# Altium footprint library Package_DirectFET.PcbLib: 29 footprints (part 2 of 2)
Each footprint in its own frame and in the unit in brackets; x right, y up, seen from the top. Pads: shape width x height; smd on the part's side, far side on the other; paste and mask are expansions set on the pad; w line width, h text height; cw(c..) or ccw(c..) is an arc to the next point about the centre after c.
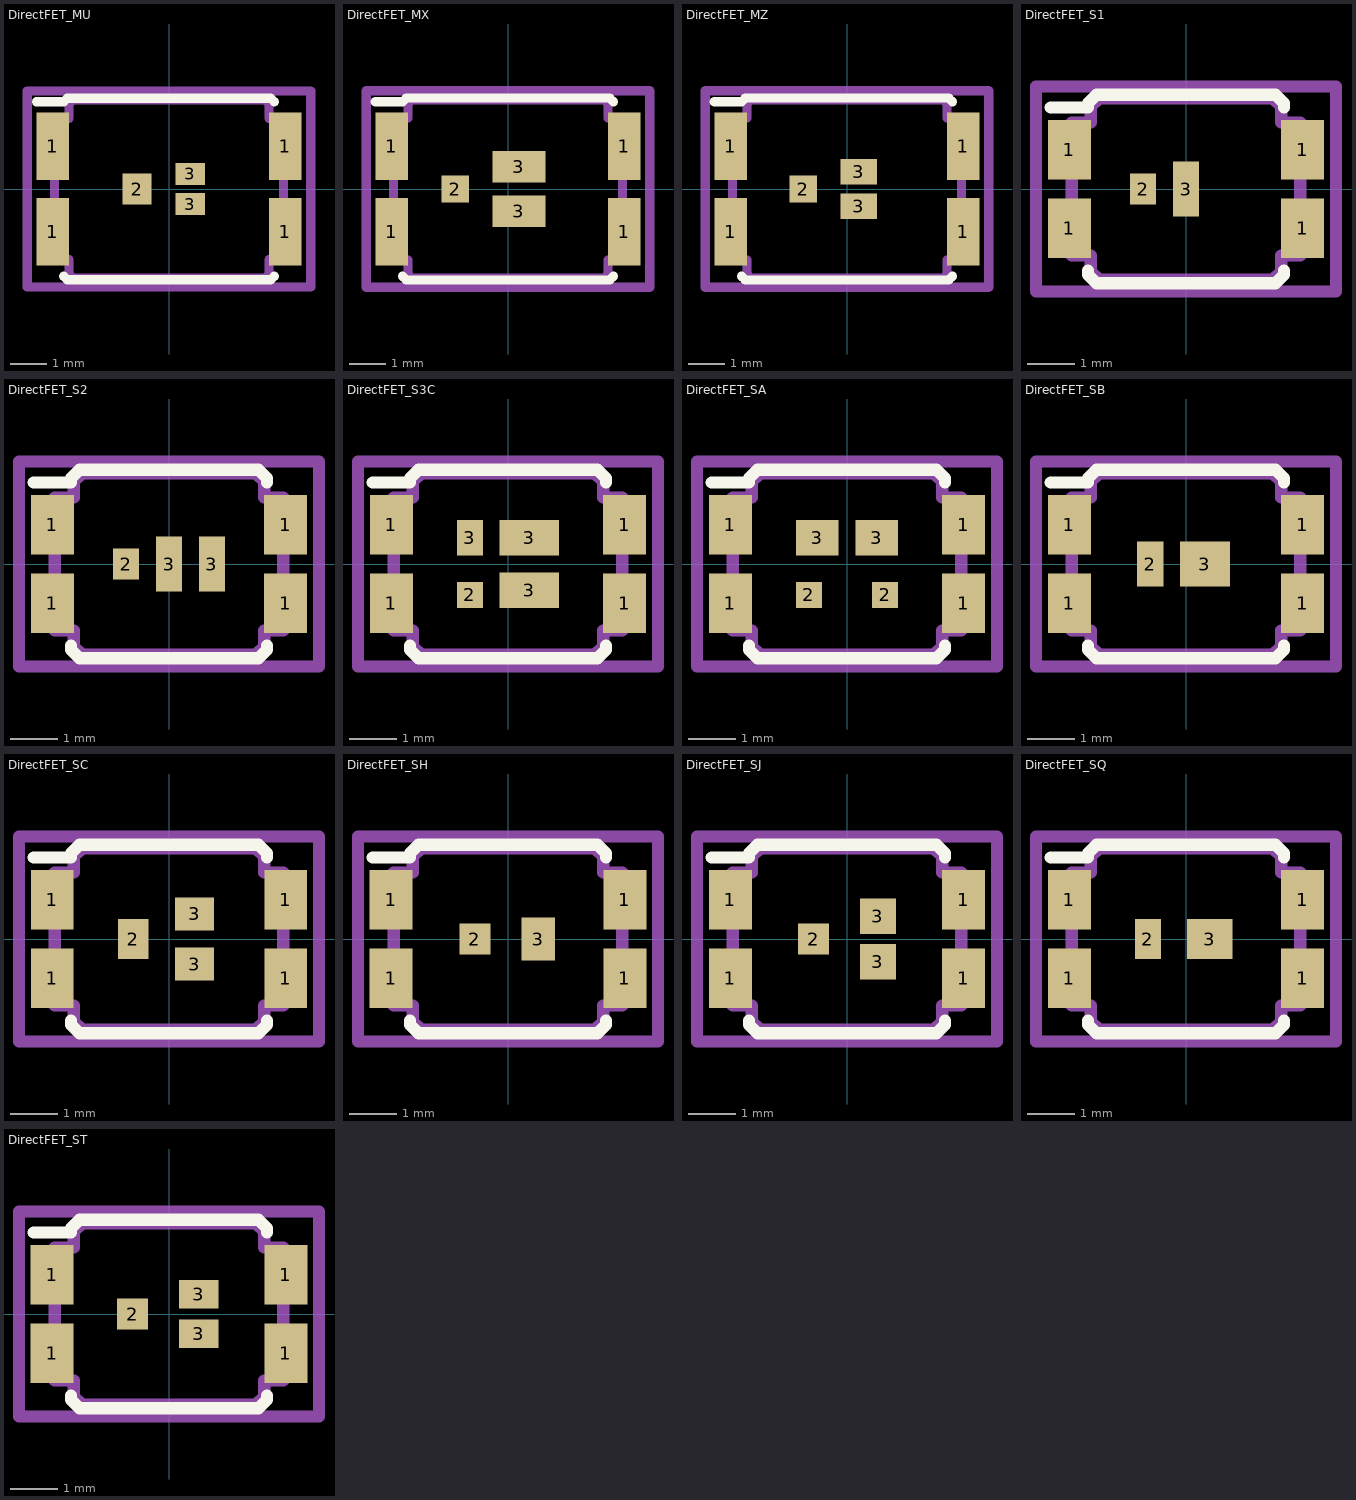
[diagram p1: the footprints below, top view; thin cyan lines are the x and y axes]

## DirectFET_MU [mm]
pads (7):
  rect 0.9x1.85 smd: 1(-3.205,-1.175) 1(-3.205,1.175) 1(3.205,-1.175) 1(3.205,1.175)
  rect 0.8x0.85 smd: 2(-0.875,0)
  rect 0.82x0.6 smd: 3(0.585,-0.415) 3(0.585,0.415)
F.SilkS:
  lines w0.254: -3.65,2.4 -2.9,2.4 -2.8,2.5 2.8,2.5 2.9,2.4 ; -2.9,-2.4 -2.8,-2.5 2.8,-2.5 2.9,-2.4
Top Assembly:
  lines w0.254: -3.15,-1.95 -2.75,-1.95 -2.75,-2.35 -2.65,-2.45 2.65,-2.45 2.75,-2.35 2.75,-1.95 3.15,-1.95 3.15,1.95 2.75,1.95 2.75,2.35 2.65,2.45 -2.65,2.45 -2.75,2.35 -2.75,1.95 -3.15,1.95 -3.15,-1.95
  text "'.Designator'" at -4.047,-0.84 h1
Top Courtyard:
  lines w0.254: -3.9,-2.7 3.9,-2.7 3.9,2.7 -3.9,2.7 -3.9,-2.7
Top Designator:
  text ".Designator" at -7.702,-0.508 h1.52

## DirectFET_MX [mm]
pads (7):
  rect 0.9x1.85 smd: 1(-3.2,-1.175) 1(-3.2,1.175) 1(3.2,-1.175) 1(3.2,1.175)
  rect 0.75x0.75 smd: 2(-1.45,0)
  rect 1.45x0.87 smd: 3(0.3,-0.61) 3(0.3,0.61)
F.SilkS:
  lines w0.254: -3.65,2.4 -2.9,2.4 -2.8,2.5 2.8,2.5 2.9,2.4 ; -2.9,-2.4 -2.8,-2.5 2.8,-2.5 2.9,-2.4
Top Assembly:
  lines w0.254: -3.15,-1.95 -2.75,-1.95 -2.75,-2.35 -2.65,-2.45 2.65,-2.45 2.75,-2.35 2.75,-1.95 3.15,-1.95 3.15,1.95 2.75,1.95 2.75,2.35 2.65,2.45 -2.65,2.45 -2.75,2.35 -2.75,1.95 -3.15,1.95 -3.15,-1.95
  text "'.Designator'" at -4.047,-0.84 h1
Top Courtyard:
  lines w0.254: -3.9,-2.7 3.9,-2.7 3.9,2.7 -3.9,2.7 -3.9,-2.7
Top Designator:
  text ".Designator" at -7.702,-0.508 h1.52

## DirectFET_MZ [mm]
pads (7):
  rect 0.9x1.85 smd: 1(-3.2,-1.175) 1(-3.2,1.175) 1(3.2,-1.175) 1(3.2,1.175)
  rect 0.75x0.75 smd: 2(-1.2,0)
  rect 1x0.7 smd: 3(0.325,-0.475) 3(0.325,0.475)
F.SilkS:
  lines w0.254: -3.65,2.4 -2.9,2.4 -2.8,2.5 2.8,2.5 2.9,2.4 ; -2.9,-2.4 -2.8,-2.5 2.8,-2.5 2.9,-2.4
Top Assembly:
  lines w0.254: -3.15,-1.95 -2.75,-1.95 -2.75,-2.35 -2.65,-2.45 2.65,-2.45 2.75,-2.35 2.75,-1.95 3.15,-1.95 3.15,1.95 2.75,1.95 2.75,2.35 2.65,2.45 -2.65,2.45 -2.75,2.35 -2.75,1.95 -3.15,1.95 -3.15,-1.95
  text "'.Designator'" at -4.047,-0.84 h1
Top Courtyard:
  lines w0.254: -3.9,-2.7 3.9,-2.7 3.9,2.7 -3.9,2.7 -3.9,-2.7
Top Designator:
  text ".Designator" at -7.702,-0.508 h1.52

## DirectFET_S1 [mm]
pads (6):
  rect 0.9x1.25 smd: 1(-2.45,-0.825) 1(-2.45,0.825) 1(2.45,-0.825) 1(2.45,0.825)
  rect 0.55x0.65 smd: 2(-0.9,0)
  rect 0.55x1.15 smd: 3(0,0)
F.SilkS:
  lines w0.254: -2.84,1.71 -2.06,1.71 -2.06,1.8 -1.88,1.98 1.88,1.98 2.06,1.8 2.06,1.71 ; -2.06,-1.71 -2.06,-1.8 -1.88,-1.98 1.88,-1.98 2.06,-1.8 2.06,-1.71
Top Assembly:
  lines w0.254: -2.4,-1.4 -2,-1.4 -2,-1.725 -1.825,-1.9 1.825,-1.9 2,-1.725 2,-1.4 2.4,-1.4 2.4,1.4 2,1.4 2,1.725 1.825,1.9 -1.825,1.9 -2,1.725 -2,1.4 -2.4,1.4 -2.4,-1.4
  text "'.Designator'" at -4.047,-0.84 h1
Top Courtyard:
  lines w0.254: -3.15,-2.15 3.15,-2.15 3.15,2.15 -3.15,2.15 -3.15,-2.15
Top Designator:
  text ".Designator" at -7.768,-0.508 h1.52

## DirectFET_S2 [mm]
pads (7):
  rect 0.9x1.25 smd: 1(-2.45,-0.825) 1(-2.45,0.825) 1(2.45,-0.825) 1(2.45,0.825)
  rect 0.55x0.65 smd: 2(-0.9,0)
  rect 0.55x1.15 smd: 3(0,0) 3(0.9,0)
F.SilkS:
  lines w0.254: -2.84,1.71 -2.06,1.71 -2.06,1.8 -1.88,1.98 1.88,1.98 2.06,1.8 2.06,1.71 ; -2.06,-1.71 -2.06,-1.8 -1.88,-1.98 1.88,-1.98 2.06,-1.8 2.06,-1.71
Top Assembly:
  lines w0.254: -2.4,-1.4 -2,-1.4 -2,-1.725 -1.825,-1.9 1.825,-1.9 2,-1.725 2,-1.4 2.4,-1.4 2.4,1.4 2,1.4 2,1.725 1.825,1.9 -1.825,1.9 -2,1.725 -2,1.4 -2.4,1.4 -2.4,-1.4
  text "'.Designator'" at -4.047,-0.84 h1
Top Courtyard:
  lines w0.254: -3.15,-2.15 3.15,-2.15 3.15,2.15 -3.15,2.15 -3.15,-2.15
Top Designator:
  text ".Designator" at -7.768,-0.508 h1.52

## DirectFET_S3C [mm]
pads (8):
  rect 0.9x1.25 smd: 1(-2.45,-0.825) 1(-2.45,0.825) 1(2.45,-0.825) 1(2.45,0.825)
  rect 0.55x0.55 smd: 2(-0.8,-0.65)
  rect 0.55x0.75 smd: 3(-0.8,0.55)
  rect 1.25x0.75 smd: 3(0.45,-0.55) 3(0.45,0.55)
F.SilkS:
  lines w0.254: -2.84,1.71 -2.06,1.71 -2.06,1.8 -1.88,1.98 1.88,1.98 2.06,1.8 2.06,1.71 ; -2.06,-1.71 -2.06,-1.8 -1.88,-1.98 1.88,-1.98 2.06,-1.8 2.06,-1.71
Top Assembly:
  lines w0.254: -2.4,-1.4 -2,-1.4 -2,-1.725 -1.825,-1.9 1.825,-1.9 2,-1.725 2,-1.4 2.4,-1.4 2.4,1.4 2,1.4 2,1.725 1.825,1.9 -1.825,1.9 -2,1.725 -2,1.4 -2.4,1.4 -2.4,-1.4
  text "'.Designator'" at -4.047,-0.84 h1
Top Courtyard:
  lines w0.254: -3.15,-2.15 3.15,-2.15 3.15,2.15 -3.15,2.15 -3.15,-2.15
Top Designator:
  text ".Designator" at -7.768,-0.508 h1.52

## DirectFET_SA [mm]
pads (8):
  rect 0.9x1.25 smd: 1(-2.45,-0.825) 1(-2.45,0.825) 1(2.45,-0.825) 1(2.45,0.825)
  rect 0.55x0.55 smd: 2(-0.8,-0.65) 2(0.8,-0.65)
  rect 0.9x0.75 smd: 3(-0.625,0.55) 3(0.625,0.55)
F.SilkS:
  lines w0.254: -2.84,1.71 -2.06,1.71 -2.06,1.8 -1.88,1.98 1.88,1.98 2.06,1.8 2.06,1.71 ; -2.06,-1.71 -2.06,-1.8 -1.88,-1.98 1.88,-1.98 2.06,-1.8 2.06,-1.71
Top Assembly:
  lines w0.254: -2,1.725 -1.825,1.9 1.825,1.9 2,1.725 2,1.4 2.4,1.4 2.4,-1.4 2,-1.4 2,-1.725 1.825,-1.9 -1.825,-1.9 -2,-1.725 -2,-1.4 -2.4,-1.4 -2.4,1.4 -2,1.4 -2,1.75
  text "'.Designator'" at -4.047,-0.84 h1
Top Courtyard:
  lines w0.254: -3.15,-2.15 3.15,-2.15 3.15,2.15 -3.15,2.15 -3.15,-2.15
Top Designator:
  text ".Designator" at -7.768,-0.508 h1.52

## DirectFET_SB [mm]
pads (6):
  rect 0.9x1.25 smd: 1(-2.45,-0.825) 1(-2.45,0.825) 1(2.45,-0.825) 1(2.45,0.825)
  rect 0.55x0.95 smd: 2(-0.75,0)
  rect 1.05x0.95 smd: 3(0.395,0)
F.SilkS:
  lines w0.254: -2.84,1.71 -2.06,1.71 -2.06,1.8 -1.88,1.98 1.88,1.98 2.06,1.8 2.06,1.71 ; -2.06,-1.71 -2.06,-1.8 -1.88,-1.98 1.88,-1.98 2.06,-1.8 2.06,-1.71
Top Assembly:
  lines w0.254: -2.4,-1.4 -2,-1.4 -2,-1.725 -1.825,-1.9 1.825,-1.9 2,-1.725 2,-1.4 2.4,-1.4 2.4,1.4 2,1.4 2,1.725 1.825,1.9 -1.825,1.9 -2,1.725 -2,1.4 -2.4,1.4 -2.4,-1.4
  text "'.Designator'" at -4.047,-0.84 h1
Top Courtyard:
  lines w0.254: -3.15,-2.15 3.15,-2.15 3.15,2.15 -3.15,2.15 -3.15,-2.15
Top Designator:
  text ".Designator" at -7.768,-0.508 h1.52

## DirectFET_SC [mm]
pads (7):
  rect 0.9x1.25 smd: 1(-2.451,-0.825) 1(-2.451,0.825) 1(2.451,-0.825) 1(2.451,0.825)
  rect 0.65x0.85 smd: 2(-0.75,0)
  rect 0.825x0.7 smd: 3(0.537,-0.525) 3(0.537,0.525)
F.SilkS:
  lines w0.254: -2.84,1.71 -2.06,1.71 -2.06,1.8 -1.88,1.98 1.88,1.98 2.06,1.8 2.06,1.71 ; -2.06,-1.71 -2.06,-1.8 -1.88,-1.98 1.88,-1.98 2.06,-1.8 2.06,-1.71
Top Assembly:
  lines w0.254: -2.4,-1.4 -2,-1.4 -2,-1.725 -1.825,-1.9 1.825,-1.9 2,-1.725 2,-1.4 2.4,-1.4 2.4,1.4 2,1.4 2,1.725 1.825,1.9 -1.825,1.9 -2,1.725 -2,1.4 -2.4,1.4 -2.4,-1.4
  text "'.Designator'" at -4.047,-0.84 h1
Top Courtyard:
  lines w0.254: -3.15,-2.15 3.15,-2.15 3.15,2.15 -3.15,2.15 -3.15,-2.15
Top Designator:
  text ".Designator" at -7.768,-0.508 h1.52

## DirectFET_SH [mm]
pads (6):
  rect 0.9x1.25 smd: 1(-2.455,-0.825) 1(-2.455,0.825) 1(2.455,-0.825) 1(2.455,0.825)
  rect 0.65x0.65 smd: 2(-0.695,0)
  rect 0.7x0.9 smd: 3(0.635,0)
F.SilkS:
  lines w0.254: -2.84,1.71 -2.06,1.71 -2.06,1.8 -1.88,1.98 1.88,1.98 2.06,1.8 2.06,1.71 ; -2.06,-1.71 -2.06,-1.8 -1.88,-1.98 1.88,-1.98 2.06,-1.8 2.06,-1.71
Top Assembly:
  lines w0.254: -2.4,-1.4 -2,-1.4 -2,-1.725 -1.825,-1.9 1.825,-1.9 2,-1.725 2,-1.4 2.4,-1.4 2.4,1.4 2,1.4 2,1.725 1.825,1.9 -1.825,1.9 -2,1.725 -2,1.4 -2.4,1.4 -2.4,-1.4
  text "'.Designator'" at -4.047,-0.84 h1
Top Courtyard:
  lines w0.254: -3.15,-2.15 3.15,-2.15 3.15,2.15 -3.15,2.15 -3.15,-2.15
Top Designator:
  text ".Designator" at -7.768,-0.508 h1.52

## DirectFET_SJ [mm]
pads (7):
  rect 0.9x1.25 smd: 1(-2.45,-0.825) 1(-2.45,0.825) 1(2.45,-0.825) 1(2.45,0.825)
  rect 0.65x0.65 smd: 2(-0.7,0)
  rect 0.75x0.75 smd: 3(0.65,-0.475) 3(0.65,0.475)
F.SilkS:
  lines w0.254: -2.84,1.71 -2.06,1.71 -2.06,1.8 -1.88,1.98 1.88,1.98 2.06,1.8 2.06,1.71 ; -2.06,-1.71 -2.06,-1.8 -1.88,-1.98 1.88,-1.98 2.06,-1.8 2.06,-1.71
Top Assembly:
  lines w0.254: -2.4,-1.4 -2,-1.4 -2,-1.725 -1.825,-1.9 1.825,-1.9 2,-1.725 2,-1.4 2.4,-1.4 2.4,1.4 2,1.4 2,1.725 1.825,1.9 -1.825,1.9 -2,1.725 -2,1.4 -2.4,1.4 -2.4,-1.4
  text "'.Designator'" at -4.047,-0.84 h1
Top Courtyard:
  lines w0.254: -3.15,-2.15 3.15,-2.15 3.15,2.15 -3.15,2.15 -3.15,-2.15
Top Designator:
  text ".Designator" at -7.768,-0.508 h1.52

## DirectFET_SQ [mm]
pads (6):
  rect 0.9x1.25 smd: 1(-2.45,-0.825) 1(-2.45,0.825) 1(2.45,-0.825) 1(2.45,0.825)
  rect 0.55x0.85 smd: 2(-0.8,0)
  rect 0.95x0.85 smd: 3(0.5,0)
F.SilkS:
  lines w0.254: -2.84,1.71 -2.06,1.71 -2.06,1.8 -1.88,1.98 1.88,1.98 2.06,1.8 2.06,1.71 ; -2.06,-1.71 -2.06,-1.8 -1.88,-1.98 1.88,-1.98 2.06,-1.8 2.06,-1.71
Top Assembly:
  lines w0.254: -2.4,-1.4 -2,-1.4 -2,-1.725 -1.825,-1.9 1.825,-1.9 2,-1.725 2,-1.4 2.4,-1.4 2.4,1.4 2,1.4 2,1.725 1.825,1.9 -1.825,1.9 -2,1.725 -2,1.4 -2.4,1.4 -2.4,-1.4
  text "'.Designator'" at -4.047,-0.84 h1
Top Courtyard:
  lines w0.254: -3.15,-2.15 3.15,-2.15 3.15,2.15 -3.15,2.15 -3.15,-2.15
Top Designator:
  text ".Designator" at -7.768,-0.508 h1.52

## DirectFET_ST [mm]
pads (7):
  rect 0.9x1.25 smd: 1(-2.455,-0.825) 1(-2.455,0.825) 1(2.455,-0.825) 1(2.455,0.825)
  rect 0.65x0.65 smd: 2(-0.765,0)
  rect 0.82x0.6 smd: 3(0.625,-0.415) 3(0.625,0.415)
F.SilkS:
  lines w0.254: -2.84,1.71 -2.06,1.71 -2.06,1.8 -1.88,1.98 1.88,1.98 2.06,1.8 2.06,1.71 ; -2.06,-1.71 -2.06,-1.8 -1.88,-1.98 1.88,-1.98 2.06,-1.8 2.06,-1.71
Top Assembly:
  lines w0.254: -2.4,-1.4 -2,-1.4 -2,-1.725 -1.825,-1.9 1.825,-1.9 2,-1.725 2,-1.4 2.4,-1.4 2.4,1.4 2,1.4 2,1.725 1.825,1.9 -1.825,1.9 -2,1.725 -2,1.4 -2.4,1.4 -2.4,-1.4
  text "'.Designator'" at -4.047,-0.84 h1
Top Courtyard:
  lines w0.254: -3.15,-2.15 3.15,-2.15 3.15,2.15 -3.15,2.15 -3.15,-2.15
Top Designator:
  text ".Designator" at -7.768,-0.508 h1.52